# EAGLE library part DRV-L293 (library eagleLib v2)
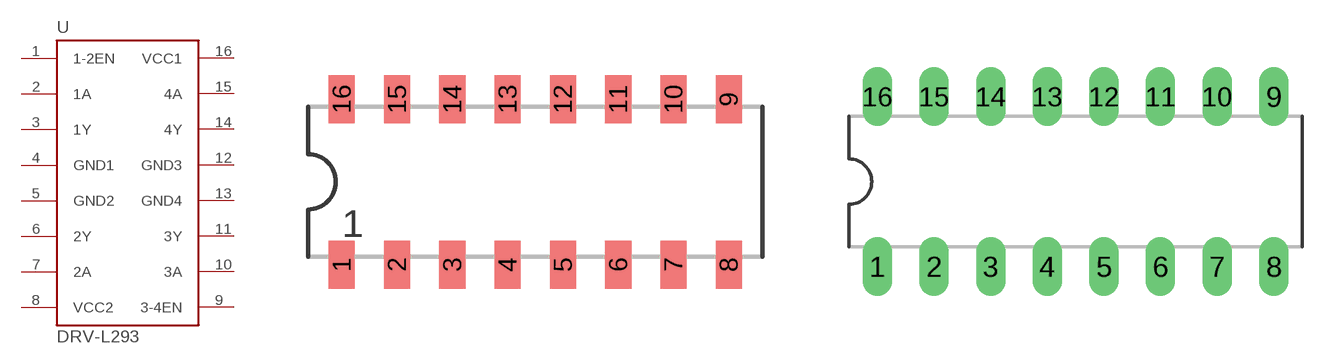
[diagram p43: symbol with the pads of DIP16; footprints DIP16, DIL16]

Designator prefix -

## DRV-L293-DP  [DIP16]
1  1-2EN  in
2  1A  in
3  1Y  out
4  GND1  pwr
5  GND2  pwr
6  2Y  out
7  2A  in
8  VCC2  pwr
9  3-4EN  in
10  3A  in
11  3Y  out
12  GND3  pwr
13  GND4  pwr
14  4Y  out
15  4A  in
16  VCC1  pwr

## DRV-L293-D  [DIL16]
Pads as for DIP16

## Footprint DIP16 (pad centres in mm)
SMD DIL16 dual in line package
smd 1.2 x 2.2: 1 -8.89,-3.8; 2 -6.35,-3.8; 3 -3.81,-3.8; 4 -1.27,-3.8; 5 1.27,-3.8; 6 3.81,-3.8; 7 6.35,-3.8; 8 8.89,-3.8; 9 8.89,3.8; 10 6.35,3.8; 11 3.81,3.8; 12 1.27,3.8; 13 -1.27,3.8; 14 -3.81,3.8; 15 -6.35,3.8; 16 -8.89,3.8

## Footprint DIL16 (pad centres in mm)
Dual In Line Package
drill 0.813 long: 1 -8.89,-3.81; 2 -6.35,-3.81; 3 -3.81,-3.81; 4 -1.27,-3.81; 5 1.27,-3.81; 6 3.81,-3.81; 7 6.35,-3.81; 8 8.89,-3.81; 9 8.89,3.81; 10 6.35,3.81; 11 3.81,3.81; 12 1.27,3.81; 13 -1.27,3.81; 14 -3.81,3.81; 15 -6.35,3.81; 16 -8.89,3.81